# Altium footprint library MD_DCDC_TRACO_TEL_5.PcbLib: 1 footprints
Each footprint in its own frame and in the unit in brackets; x right, y up, seen from the top. Pads: shape width x height; smd on the part's side, far side on the other; paste and mask are expansions set on the pad; w line width, h text height; cw(c..) or ccw(c..) is an arc to the next point about the centre after c.
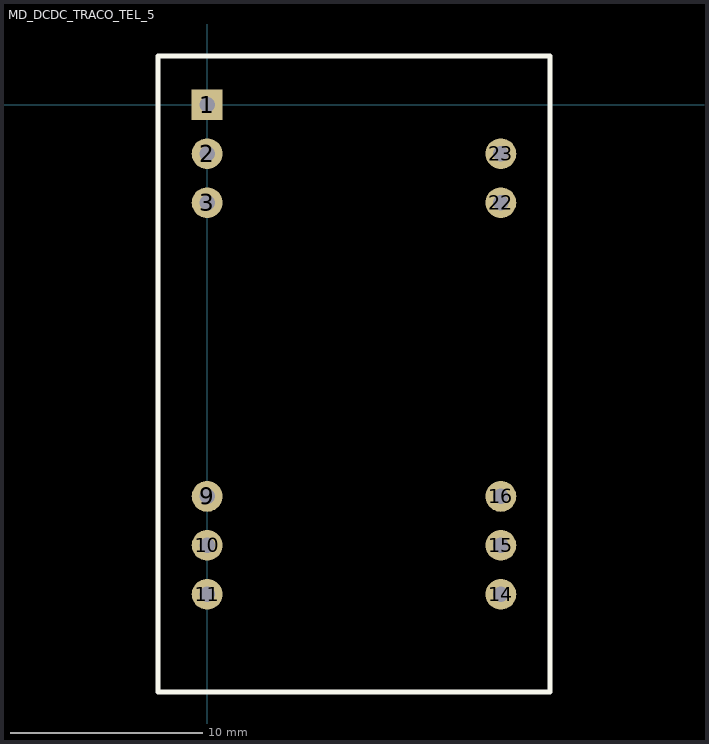
[diagram p0: the footprint, top view; thin cyan lines are the x and y axes]

## MD_DCDC_TRACO_TEL_5 [mm]
pads (11):
  rect 1.6x1.6 hole 0.8: 1(0,0)
  round 1.6 hole 0.8: 2(0,-2.54) 3(0,-5.08) 9(0,-20.32) 10(0,-22.86) 11(0,-25.4) 14(15.24,-25.4) 15(15.24,-22.86) 16(15.24,-20.32) 22(15.24,-5.08) 23(15.24,-2.54)
Top Overlay:
  lines w0.254: -2.54,-30.48 -2.54,2.54 17.78,2.54 17.78,-30.48 -2.54,-30.48
3D body: height 0, standoff -4.1, extent 14.992,-23.109 15.49,-22.61
3D body: height 0, standoff -4.1, extent -0.248,-23.109 0.25,-22.61
3D body: height 10.2, standoff 0, extent -2.667,-30.607 17.907,2.667
3D body: height 0, standoff -4.1, extent -0.248,-0.249 0.25,0.25
3D body: height 0, standoff -4.1, extent -0.248,-2.789 0.25,-2.29
3D body: height 0, standoff -4.1, extent -0.248,-5.329 0.25,-4.83
3D body: height 0, standoff -4.1, extent -0.248,-20.569 0.25,-20.07
3D body: height 0, standoff -4.1, extent -0.248,-25.649 0.25,-25.15
3D body: height 0, standoff -4.1, extent 14.992,-25.649 15.49,-25.15
3D body: height 0, standoff -4.1, extent 14.992,-20.569 15.49,-20.07
3D body: height 0, standoff -4.1, extent 14.992,-5.329 15.49,-4.83
3D body: height 0, standoff -4.1, extent 14.992,-2.789 15.49,-2.29